# Altium footprint library con-lumberg.PCBLIB: 62 footprints (part 4 of 4)
Each footprint in its own frame and in the unit in brackets; x right, y up, seen from the top. Pads: shape width x height; smd on the part's side, far side on the other; paste and mask are expansions set on the pad; w line width, h text height; cw(c..) or ccw(c..) is an arc to the next point about the centre after c.
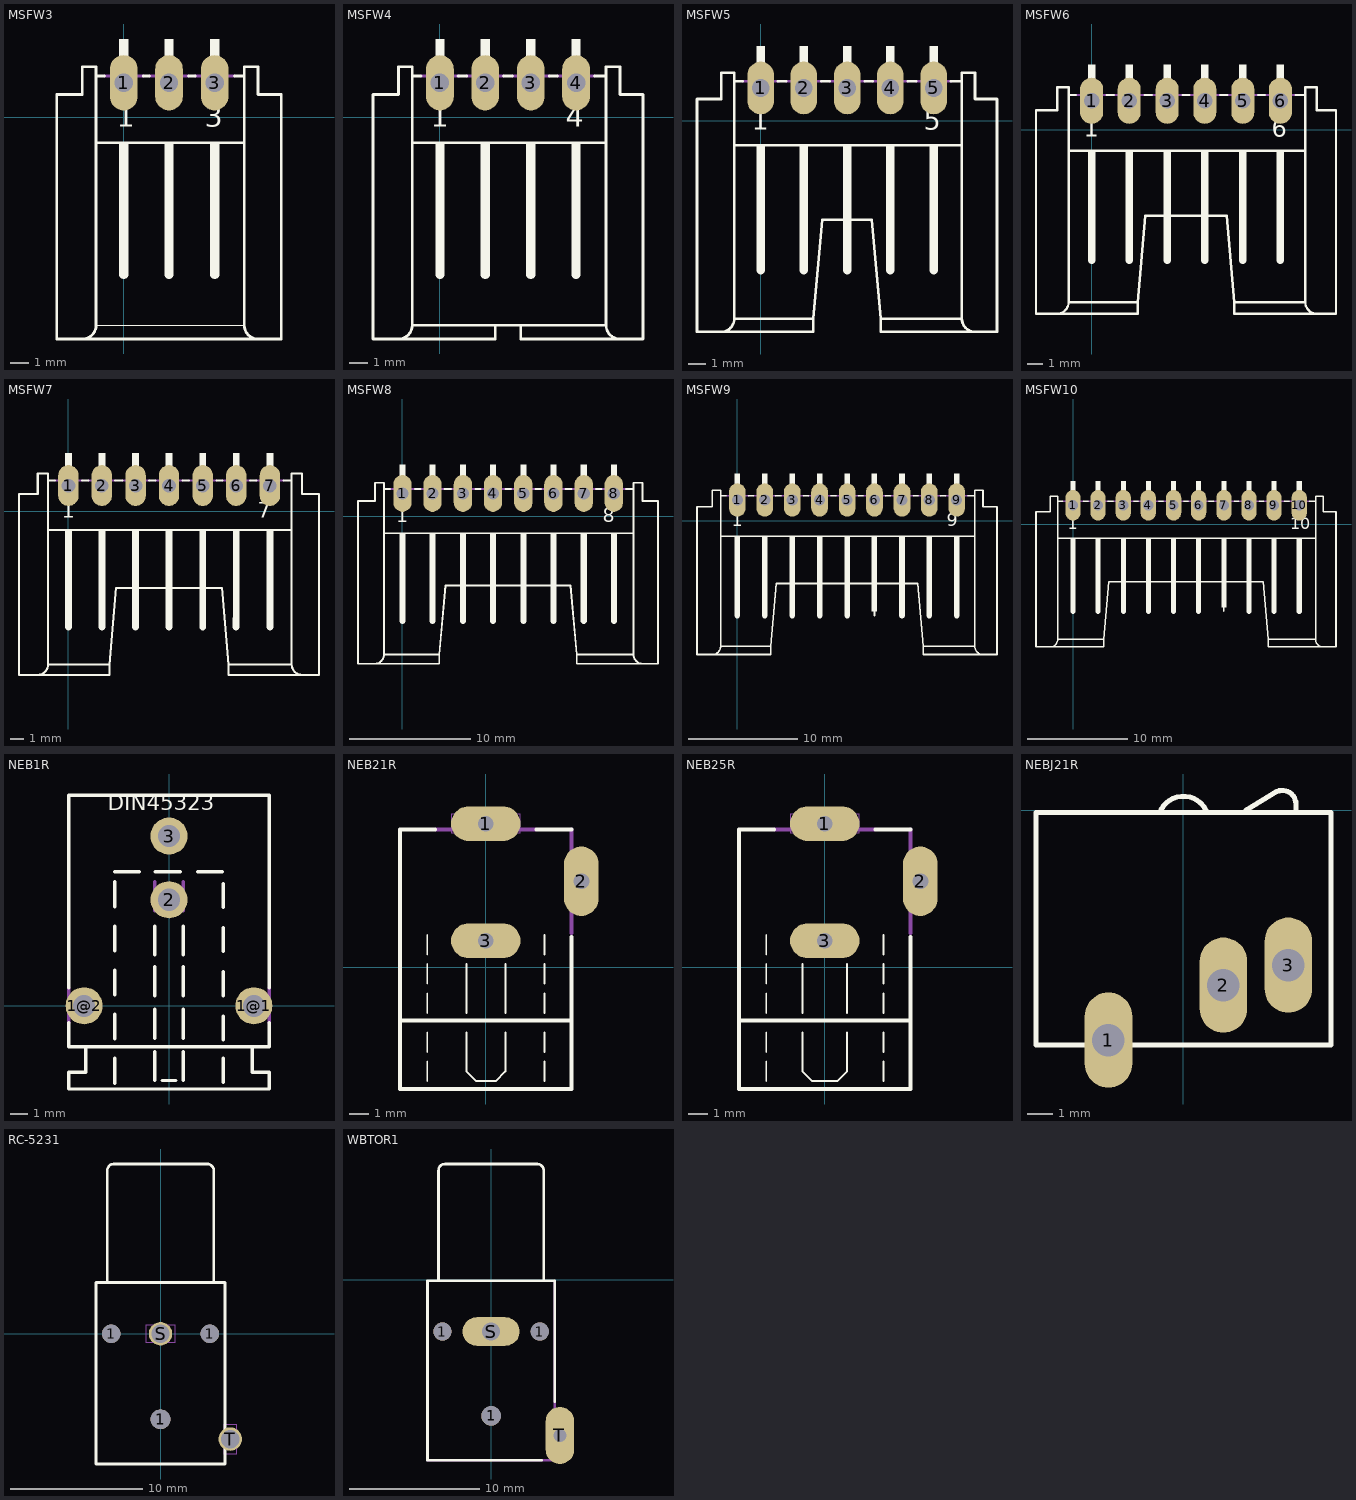
[diagram p3: the footprints below, top view; thin cyan lines are the x and y axes]

## MSFW3 [mil]
pads (3):
  oval 60x120 hole 40: 1(0,75) 2(98,75) 3(197,75)
Top Overlay:
  rectangle: -10,-325 10,-55
  rectangle: 88,-325 108,-55
  rectangle: 187,-325 207,-55
  rectangle: 187,115 207,170
  rectangle: 88,115 108,170
  rectangle: -10,115 10,170
  lines w2: -60,-450 261,-450
  lines w6: -90,-480 ccw(c-90,-450) -60,-450 -60,-55 ; -42,90 -60,90 ; 42,90 56,90 ; 140,90 155,90 ; 240,90 261,90 ; 291,-480 cw(c291,-450) 261,-450 261,-55 ; -60,-55 261,-55 ; -60,-55 -60,90 ; -60,90 -60,110 -90,110 -90,50 -145,50 -145,-480 341,-480 341,50 291,50 291,110 261,110 261,90 ; 261,-55 261,90
  lines w20: 0,-340 0,-315 ; 98,-340 98,-315 ; 197,-340 197,-315
  text "1" at -15,-35 h77.5
  text "3" at 175,-35 h77.5
Mechanical 16:
  rectangle: 187,55 207,115
  rectangle: 88,55 108,115
  rectangle: -10,55 10,115
  lines w6: -42,90 42,90 ; 56,90 140,90 ; 155,90 240,90

## MSFW4 [mil]
pads (4):
  oval 60x120 hole 40: 1(0,75) 2(98,75) 3(197,75) 4(295,75)
Top Overlay:
  rectangle: -10,-325 10,-55
  rectangle: 88,-325 108,-55
  rectangle: 187,-325 207,-55
  rectangle: 285,-325 305,-55
  rectangle: -10,115 10,170
  rectangle: 88,115 108,170
  rectangle: 187,115 207,170
  rectangle: 285,115 305,170
  lines w6: -90,-480 ccw(c-90,-450) -60,-450 ; -41,90 -60,90 ; 39,90 58,90 ; 138,90 157,90 ; 237,90 255,90 ; 335,90 360,90 ; 390,-480 cw(c390,-450) 360,-450 ; -60,-450 -60,-55 ; -60,-450 120,-450 ; -60,-55 360,-55 ; -60,-55 -60,90 ; -60,90 -60,110 -90,110 -90,50 -145,50 -145,-480 120,-480 120,-450 ; 120,-450 175,-450 ; 175,-450 360,-450 ; 175,-450 175,-480 440,-480 440,50 390,50 390,110 360,110 360,90 ; 360,-450 360,-55 ; 360,-55 360,90
  lines w20: 0,-340 0,-315 ; 98,-340 98,-315 ; 197,-340 197,-315 ; 295,-340 295,-315
  text "1" at -20,-35 h77.5
  text "4" at 273,-35 h77.5
Mechanical 16:
  rectangle: -10,55 10,115
  rectangle: 88,55 108,115
  rectangle: 187,55 207,115
  rectangle: 285,55 305,115
  lines w6: -41,90 41,90 ; 58,90 138,90 ; 157,90 237,90 ; 255,90 335,90

## MSFW5 [mil]
pads (5):
  oval 60x120 hole 40: 1(0,75) 2(98,75) 3(197,75) 4(295,75) 5(394,75)
Top Overlay:
  rectangle: -10,-325 10,-55
  rectangle: 88,-325 108,-55
  rectangle: 187,-325 207,-55
  rectangle: 285,-325 305,-55
  rectangle: 384,-325 404,-55
  rectangle: -10,115 10,170
  rectangle: 88,115 108,170
  rectangle: 187,115 207,170
  rectangle: 285,115 305,170
  rectangle: 384,115 404,170
  lines w6: -90,-480 ccw(c-90,-450) -60,-450 ; -41,90 -60,90 ; 39,90 58,90 ; 138,90 157,90 ; 237,90 255,90 ; 335,90 354,90 ; 433,90 458,90 ; 488,-480 cw(c488,-450) 458,-450 ; -60,-450 -60,-55 ; -60,-450 120,-450 ; -60,-55 458,-55 ; -60,-55 -60,90 ; -60,90 -60,110 -90,110 -90,50 -145,50 -145,-480 120,-480 120,-450 ; 120,-450 140,-225 253,-225 273,-450 ; 273,-450 458,-450 ; 273,-450 273,-480 538,-480 538,50 488,50 488,110 458,110 458,90 ; 458,-450 458,-55 ; 458,-55 458,90
  lines w20: 0,-340 0,-315 ; 98,-340 98,-315 ; 197,-340 197,-315 ; 295,-340 295,-315 ; 394,-340 394,-315
  text "1" at -20,-35 h77.5
  text "5" at 371,-35 h77.5
Mechanical 16:
  rectangle: -10,55 10,115
  rectangle: 88,55 108,115
  rectangle: 187,55 207,115
  rectangle: 285,55 305,115
  rectangle: 384,55 404,115
  lines w6: -41,90 41,90 ; 58,90 138,90 ; 157,90 237,90 ; 255,90 335,90 ; 354,90 434,90

## MSFW6 [mil]
pads (6):
  oval 60x120 hole 40: 1(0,75) 2(98,75) 3(197,75) 4(295,75) 5(394,75) 6(492,75)
Top Overlay:
  rectangle: -10,-325 10,-55
  rectangle: 88,-325 108,-55
  rectangle: 187,-325 207,-55
  rectangle: 285,-325 305,-55
  rectangle: 384,-325 404,-55
  rectangle: 482,-325 502,-55
  rectangle: -10,115 10,170
  rectangle: 88,115 108,170
  rectangle: 187,115 207,170
  rectangle: 285,115 305,170
  rectangle: 384,115 404,170
  rectangle: 482,115 502,170
  lines w6: -90,-480 ccw(c-90,-450) -60,-450 ; -41,90 -60,90 ; 39,90 58,90 ; 138,90 157,90 ; 237,90 255,90 ; 335,90 354,90 ; 434,90 452,90 ; 532,90 557,90 ; 587,-480 cw(c587,-450) 557,-450 ; -60,-450 -60,-55 ; -60,-450 120,-450 ; -60,-55 557,-55 ; -60,-55 -60,90 ; -60,90 -60,110 -90,110 -90,50 -145,50 -145,-480 120,-480 120,-450 ; 120,-450 140,-225 352,-225 372,-450 ; 372,-450 557,-450 ; 372,-450 372,-480 637,-480 637,50 587,50 587,110 557,110 557,90 ; 557,-450 557,-55 ; 557,-55 557,90
  lines w20: 0,-340 0,-315 ; 98,-340 98,-315 ; 197,-340 197,-315 ; 295,-340 295,-315 ; 394,-340 394,-315 ; 492,-340 492,-315
  text "1" at -20,-35 h77.5
  text "6" at 470,-35 h77.5
Mechanical 16:
  rectangle: -10,55 10,115
  rectangle: 88,55 108,115
  rectangle: 187,55 207,115
  rectangle: 285,55 305,115
  rectangle: 384,55 404,115
  rectangle: 482,55 502,115
  lines w6: -41,90 41,90 ; 58,90 138,90 ; 157,90 237,90 ; 255,90 335,90 ; 354,90 434,90 ; 452,90 532,90

## MSFW7 [mil]
pads (7):
  oval 60x120 hole 40: 1(0,75) 2(98,75) 3(197,75) 4(295,75) 5(394,75) 6(492,75) 7(591,75)
Top Overlay:
  rectangle: -10,-325 10,-55
  rectangle: 88,-325 108,-55
  rectangle: 187,-325 207,-55
  rectangle: 285,-325 305,-55
  rectangle: 384,-325 404,-55
  rectangle: 482,-325 502,-55
  rectangle: 581,-325 601,-55
  rectangle: -10,115 10,170
  rectangle: 88,115 108,170
  rectangle: 187,115 207,170
  rectangle: 285,115 305,170
  rectangle: 384,115 404,170
  rectangle: 482,115 502,170
  rectangle: 581,115 601,170
  lines w6: -90,-480 ccw(c-90,-450) -60,-450 ; -40,90 -60,90 ; 40,90 59,90 ; 137,90 158,90 ; 237,90 255,90 ; 335,90 354,90 ; 434,90 452,90 ; 532,90 551,90 ; 631,90 655,90 ; 685,-480 cw(c685,-450) 655,-450 ; -60,-450 -60,-55 ; -60,-450 120,-450 ; -60,-55 655,-55 ; -60,-55 -60,90 ; -60,90 -60,110 -90,110 -90,50 -145,50 -145,-480 120,-480 120,-450 ; 120,-450 140,-225 450,-225 470,-450 ; 470,-450 655,-450 ; 470,-450 470,-480 735,-480 735,50 685,50 685,110 655,110 655,90 ; 655,-450 655,-55 ; 655,-55 655,90
  lines w20: 0,-340 0,-315 ; 98,-340 98,-315 ; 197,-340 197,-315 ; 295,-340 295,-315 ; 394,-340 394,-315 ; 492,-340 492,-315 ; 591,-340 591,-315
  text "1" at -20,-35 h77.5
  text "7" at 555,-35 h77.5
Mechanical 16:
  rectangle: -10,55 10,115
  rectangle: 88,55 108,115
  rectangle: 187,55 207,115
  rectangle: 285,55 305,115
  rectangle: 384,55 404,115
  rectangle: 482,55 502,115
  rectangle: 581,55 601,115
  lines w6: -40,90 40,90 ; 59,90 137,90 ; 158,90 237,90 ; 255,90 335,90 ; 354,90 434,90 ; 452,90 532,90 ; 551,90 631,90

## MSFW8 [mil]
pads (8):
  oval 60x120 hole 40: 1(0,75) 2(98,75) 3(197,75) 4(295,75) 5(394,75) 6(492,75) 7(591,75) 8(689,75)
Top Overlay:
  rectangle: -10,-325 10,-55
  rectangle: 88,-325 108,-55
  rectangle: 187,-325 207,-55
  rectangle: 285,-325 305,-55
  rectangle: 384,-325 404,-55
  rectangle: 482,-325 502,-55
  rectangle: 581,-325 601,-55
  rectangle: 679,-325 699,-55
  rectangle: -10,115 10,170
  rectangle: 88,115 108,170
  rectangle: 187,115 207,170
  rectangle: 285,115 305,170
  rectangle: 384,115 404,170
  rectangle: 482,115 502,170
  rectangle: 581,115 601,170
  rectangle: 679,115 699,170
  lines w6: -90,-480 ccw(c-90,-450) -60,-450 ; -40,90 -60,90 ; 40,90 59,90 ; 137,90 158,90 ; 237,90 255,90 ; 335,90 354,90 ; 434,90 452,90 ; 532,90 551,90 ; 631,90 649,90 ; 729,90 753,90 ; 783,-480 cw(c783,-450) 753,-450 ; -60,-450 -60,-55 ; -60,-450 120,-450 ; -60,-55 753,-55 ; -60,-55 -60,90 ; -60,90 -60,110 -90,110 -90,50 -145,50 -145,-480 120,-480 120,-450 ; 120,-450 140,-225 548,-225 568,-450 ; 568,-450 753,-450 ; 568,-450 568,-480 833,-480 833,50 783,50 783,110 753,110 753,90 ; 753,-450 753,-55 ; 753,-55 753,90
  lines w20: 0,-340 0,-315 ; 98,-340 98,-315 ; 197,-340 197,-315 ; 295,-340 295,-315 ; 394,-340 394,-315 ; 492,-340 492,-315 ; 591,-340 591,-315 ; 689,-340 689,-315
  text "1" at -20,-35 h77.5
  text "8" at 653,-35 h77.5
Mechanical 16:
  rectangle: -10,55 10,115
  rectangle: 88,55 108,115
  rectangle: 187,55 207,115
  rectangle: 285,55 305,115
  rectangle: 384,55 404,115
  rectangle: 482,55 502,115
  rectangle: 581,55 601,115
  rectangle: 679,55 699,115
  lines w6: -40,90 40,90 ; 59,90 137,90 ; 158,90 237,90 ; 255,90 335,90 ; 354,90 434,90 ; 452,90 532,90 ; 551,90 631,90 ; 649,90 729,90

## MSFW9 [mil]
pads (9):
  oval 60x120 hole 40: 1(0,75) 2(98,75) 3(197,75) 4(295,75) 5(394,75) 6(492,75) 7(591,75) 8(689,75) 9(787,75)
Top Overlay:
  rectangle: -10,-325 10,-55
  rectangle: 88,-325 108,-55
  rectangle: 187,-325 207,-55
  rectangle: 285,-325 305,-55
  rectangle: 384,-325 404,-55
  rectangle: 482,-325 502,-55
  rectangle: 581,-325 601,-55
  rectangle: 679,-325 699,-55
  rectangle: 777,-325 797,-55
  rectangle: -10,115 10,170
  rectangle: 88,115 108,170
  rectangle: 187,115 207,170
  rectangle: 285,115 305,170
  rectangle: 384,115 404,170
  rectangle: 482,115 502,170
  rectangle: 581,115 601,170
  rectangle: 679,115 699,170
  rectangle: 777,115 797,170
  lines w6: -90,-480 ccw(c-90,-450) -60,-450 ; -40,90 -60,90 ; 40,90 59,90 ; 137,90 158,90 ; 237,90 255,90 ; 335,90 354,90 ; 434,90 452,90 ; 492,-340 492,-315 ; 532,90 551,90 ; 631,90 649,90 ; 729,90 747,90 ; 828,90 852,90 ; 882,-480 cw(c882,-450) 852,-450 ; -60,-450 -60,-55 ; -60,-450 120,-450 ; -60,-55 852,-55 ; -60,-55 -60,90 ; -60,90 -60,110 -90,110 -90,50 -145,50 -145,-480 120,-480 120,-450 ; 120,-450 140,-225 647,-225 667,-450 ; 667,-450 852,-450 ; 667,-450 667,-480 932,-480 932,50 882,50 882,110 852,110 852,90 ; 852,-450 852,-55 ; 852,-55 852,90
  lines w20: 0,-340 0,-315 ; 98,-340 98,-315 ; 197,-340 197,-315 ; 295,-340 295,-315 ; 394,-340 394,-315 ; 591,-340 591,-315 ; 689,-340 689,-315 ; 787,-340 787,-315
  text "1" at -20,-35 h77.5
  text "9" at 752,-35 h77.5
Mechanical 16:
  rectangle: -10,55 10,115
  rectangle: 88,55 108,115
  rectangle: 187,55 207,115
  rectangle: 285,55 305,115
  rectangle: 384,55 404,115
  rectangle: 482,55 502,115
  rectangle: 581,55 601,115
  rectangle: 679,55 699,115
  rectangle: 777,55 797,115
  lines w6: -40,90 40,90 ; 59,90 137,90 ; 158,90 237,90 ; 255,90 335,90 ; 354,90 434,90 ; 452,90 532,90 ; 551,90 631,90 ; 649,90 729,90 ; 747,90 827,90

## MSFW10 [mil]
pads (10):
  oval 60x120 hole 40: 1(0,75) 2(98,75) 3(197,75) 4(295,75) 5(394,75) 6(492,75) 7(591,75) 8(689,75) 9(787,75) 10(886,75)
Top Overlay:
  rectangle: -10,-325 10,-55
  rectangle: 88,-325 108,-55
  rectangle: 187,-325 207,-55
  rectangle: 285,-325 305,-55
  rectangle: 384,-325 404,-55
  rectangle: 482,-325 502,-55
  rectangle: 581,-325 601,-55
  rectangle: 679,-325 699,-55
  rectangle: 777,-325 797,-55
  rectangle: 876,-325 896,-55
  rectangle: -10,115 10,170
  rectangle: 88,115 108,170
  rectangle: 187,115 207,170
  rectangle: 285,115 305,170
  rectangle: 384,115 404,170
  rectangle: 482,115 502,170
  rectangle: 581,115 601,170
  rectangle: 679,115 699,170
  rectangle: 777,115 797,170
  rectangle: 876,115 896,170
  lines w6: -90,-480 ccw(c-90,-450) -60,-450 ; -40,90 -60,90 ; 40,90 59,90 ; 137,90 158,90 ; 237,90 255,90 ; 335,90 354,90 ; 434,90 452,90 ; 532,90 551,90 ; 591,-340 591,-315 ; 631,90 649,90 ; 729,90 747,90 ; 827,90 846,90 ; 926,90 950,90 ; 980,-480 cw(c980,-450) 950,-450 ; -60,-450 -60,-55 ; -60,-450 120,-450 ; -60,-55 950,-55 ; -60,-55 -60,90 ; -60,90 -60,110 -90,110 -90,50 -145,50 -145,-480 120,-480 120,-450 ; 120,-450 140,-225 745,-225 765,-450 ; 765,-450 950,-450 ; 765,-450 765,-480 1030,-480 1030,50 980,50 980,110 950,110 950,90 ; 950,-450 950,-55 ; 950,-55 950,90
  lines w20: 0,-340 0,-315 ; 98,-340 98,-315 ; 197,-340 197,-315 ; 295,-340 295,-315 ; 394,-340 394,-315 ; 492,-340 492,-315 ; 689,-340 689,-315 ; 787,-340 787,-315 ; 886,-340 886,-315
  text "1" at -20,-35 h77.5
  text "10" at 850,-35 h77.5
Mechanical 16:
  rectangle: -10,55 10,115
  rectangle: 88,55 108,115
  rectangle: 187,55 207,115
  rectangle: 285,55 305,115
  rectangle: 384,55 404,115
  rectangle: 482,55 502,115
  rectangle: 581,55 601,115
  rectangle: 679,55 699,115
  rectangle: 777,55 797,115
  rectangle: 876,55 896,115
  lines w6: -40,90 40,90 ; 59,90 137,90 ; 158,90 237,90 ; 255,90 335,90 ; 354,90 434,90 ; 452,90 532,90 ; 551,90 631,90 ; 649,90 729,90 ; 747,90 827,90 ; 846,90 926,90

## NEB1R [mil]
pads (4):
  round 86 hole 51.18: 1@1(196.85,0) 1@2(-196.85,0) 2(0,246.06) 3(0,393.7)
Top Overlay:
  lines w8: -232.28,-39.37 -232.28,-94.49 -192.91,-94.49 ; -232.28,41.34 -232.28,488.19 232.28,488.19 232.28,41.34 ; -125.98,-179.13 -125.98,-122.05 ; -125.98,-76.77 -125.98,-19.69 ; -125.98,25.59 -125.98,82.68 ; -125.98,127.95 -125.98,185.04 ; -125.98,230.32 -125.98,287.4 ; -125.98,311.02 -68.9,311.02 ; -33.46,-173.23 -33.46,-106.3 ; -33.46,-74.8 -33.46,-7.87 ; -33.46,23.62 -33.46,90.55 ; -33.46,118.11 -33.46,185.04 ; -31.5,311.02 25.59,311.02 ; -15.75,-173.23 15.75,-173.23 ; 33.46,-173.23 33.46,-106.3 ; 33.46,-74.8 33.46,-7.87 ; 33.46,23.62 33.46,90.55 ; 33.46,118.11 33.46,185.04 ; 66.93,311.02 124.02,311.02 ; 125.98,-177.17 125.98,-122.05 ; 125.98,-78.74 125.98,-23.62 ; 125.98,23.62 125.98,78.74 ; 125.98,125.98 125.98,181.1 ; 125.98,228.35 125.98,283.46 ; 232.28,-39.37 232.28,-94.49 192.91,-94.49 ; -192.91,-94.49 -192.91,-153.54 -232.28,-153.54 -232.28,-192.91 232.28,-192.91 232.28,-153.54 192.91,-153.54 192.91,-94.49 ; -192.91,-94.49 192.91,-94.49
  text "DIN45323" at -141.73,440.94 h62
Mechanical 16:
  lines w8: -232.28,-39.37 -232.28,41.34 ; -33.46,220.47 -33.46,287.4 ; 33.46,220.47 33.46,287.4 ; 232.28,-39.37 232.28,41.34

## NEB21R [mil]
pads (3):
  oval 140x70 hole 32: 1(0,289.37) 3(0,53.15)
  oval 70x140 hole 32: 2(192.91,173.23)
Top Overlay:
  lines w4: -118.11,-230.32 -118.11,-190.94 ; -118.11,-171.26 -118.11,-131.89 ; -118.11,-92.52 -118.11,-53.15 ; -118.11,-33.46 -118.11,5.91 ; -118.11,25.59 -118.11,64.96 ; -39.37,-131.89 -39.37,-210.63 -19.69,-230.32 19.69,-230.32 39.37,-210.63 39.37,-131.89 ; -39.37,-92.52 -39.37,5.91 ; 39.37,-92.52 39.37,5.91 ; 118.11,-230.32 118.11,-190.94 ; 118.11,-171.26 118.11,-131.89 ; 118.11,-92.52 118.11,-53.15 ; 118.11,-33.46 118.11,5.91 ; 118.11,25.59 118.11,64.96
  lines w8: -102.36,277.56 -173.23,277.56 -173.23,-108.27 ; 102.36,277.56 173.23,277.56 ; 173.23,-108.27 -173.23,-108.27 ; 173.23,61.02 173.23,-246.06 -173.23,-246.06 -173.23,-108.27
Mechanical 11:
  lines w0: -68.9,269.69 68.9,269.69 68.9,309.06 -68.9,309.06 -68.9,269.69 ; -59.06,33.46 59.06,33.46 59.06,72.83 -59.06,72.83 -59.06,33.46 ; 173.23,114.17 212.6,114.17 212.6,232.28 173.23,232.28 173.23,114.17
Mechanical 16:
  lines w8: -99.49,277.56 99.49,277.56 ; 173.23,68.9 173.23,277.56

## NEB25R [mil]
pads (3):
  oval 140x70 hole 32: 1(0,289.37) 3(0,53.15)
  oval 70x140 hole 32: 2(192.91,173.23)
Top Overlay:
  lines w4: -118.11,-230.32 -118.11,-190.94 ; -118.11,-171.26 -118.11,-131.89 ; -118.11,-92.52 -118.11,-53.15 ; -118.11,-33.46 -118.11,5.91 ; -118.11,25.59 -118.11,64.96 ; -45.28,-131.89 -45.28,-210.63 -25.59,-230.32 25.59,-230.32 45.28,-210.63 45.28,-131.89 ; -45.28,-92.52 -45.28,5.91 ; 45.28,-92.52 45.28,5.91 ; 118.11,-230.32 118.11,-190.94 ; 118.11,-171.26 118.11,-131.89 ; 118.11,-92.52 118.11,-53.15 ; 118.11,-33.46 118.11,5.91 ; 118.11,25.59 118.11,64.96
  lines w8: -102.36,277.56 -173.23,277.56 -173.23,-108.27 ; 102.36,277.56 173.23,277.56 ; 173.23,-108.27 -173.23,-108.27 ; 173.23,61.02 173.23,-246.06 -173.23,-246.06 -173.23,-108.27
Mechanical 11:
  lines w0: -68.9,269.69 68.9,269.69 68.9,309.06 -68.9,309.06 -68.9,269.69 ; -59.06,33.46 59.06,33.46 59.06,72.83 -59.06,72.83 -59.06,33.46 ; 173.23,114.17 212.6,114.17 212.6,232.28 173.23,232.28 173.23,114.17
Mechanical 16:
  lines w8: -99.49,277.56 99.49,277.56 ; 173.23,68.9 173.23,277.56

## NEBJ21R [mm]
pads (3):
  oval 1.905x3.81 hole 1.3: 1(-3,-9.2) 2(1.6,-7) 3(4.2,-6.2)
Top Overlay:
  lines w0.203: -0.9,0 cw(c0,-0.45) 0.9,0 ; 2.5,0 3.75,0.75 cw(c3.958,0.25) 4.5,0.25 4.5,0 ; -5.9,-9.4 5.9,-9.4 5.9,-0.1 -5.9,-0.1 -5.9,-9.4

## RC-5231 [mil]
pads (5):
  round 55.12 hole 55.12: 1(-147.64,0) 1(147.64,0)
  round 59.06 hole 59.06: 1(0,-255.91)
  round 70 hole 55.12: S(0,0) T(208.66,-314.96)
Top Layer:
  region: 0,0 10,0 10,10 0,10
  region: 0,0 10,0 10,10 0,10
Bottom Layer:
  region: 0,0 10,0 10,10 0,10
  region: 0,0 10,0 10,10 0,10
Top Overlay:
  lines w8: -159.45,157.48 -159.45,488.19 cw(c-139.76,488.19) -139.76,507.87 139.76,507.87 cw(c139.76,488.19) 159.45,488.19 159.45,157.48 ; -192.91,-389.57 192.91,-389.57 192.91,153.54 -192.91,153.54 -192.91,-389.57
Mechanical 11:
  lines w0: -43.31,-27.56 43.31,-27.56 43.31,27.56 -43.31,27.56 -43.31,-27.56 ; 188.98,-358.27 188.98,-271.65 228.35,-271.65 228.35,-358.27 188.98,-358.27

## WBTOR1 [mm]
pads (5):
  round 1.4 hole 1.4: 1(-3.75,-4) 1(3.75,-4)
  round 1.5 hole 1.5: 1(0,-10.5)
  oval 4.4x2.2 hole 1.4: S(0,-4)
  oval 2.2x4.4 hole 1: T(5.3,-12)
Top Overlay:
  lines w0.203: -4.05,0 -4.05,8.4 cw(c-3.55,8.4) -3.55,8.9 3.55,8.9 cw(c3.55,8.4) 4.05,8.4 4.05,0 ; 3.9,-13.9 -4.9,-13.9 -4.9,-0.1 4.9,-0.1 4.9,-9.4
Mechanical 11:
  lines w0: -1.1,-4 cw(c-0.4,-4) -0.4,-3.3 0.4,-3.3 cw(c0.4,-4) 1.1,-4 cw(c0.4,-4) 0.4,-4.7 -0.4,-4.7 cw(c-0.4,-4) -1.1,-4 ; 4.8,-12.6 ccw(c5.3,-12.6) 5.3,-13.1 ccw(c5.3,-12.6) 5.8,-12.6 5.8,-11.4 ccw(c5.3,-11.4) 5.3,-10.9 ccw(c5.3,-11.4) 4.8,-11.4 4.8,-12.6
Mechanical 16:
  lines w0.203: -4.9,-13.9 4.9,-13.9 4.9,-0.1